# EAGLE library part STM32F411CEU6 (library STM32F411CEU6)
High-performance access line, ARM Cortex-M4 core with DSP and FPU, 512 Kbytes Flash, 100 MHz CPU, ART Accelerator
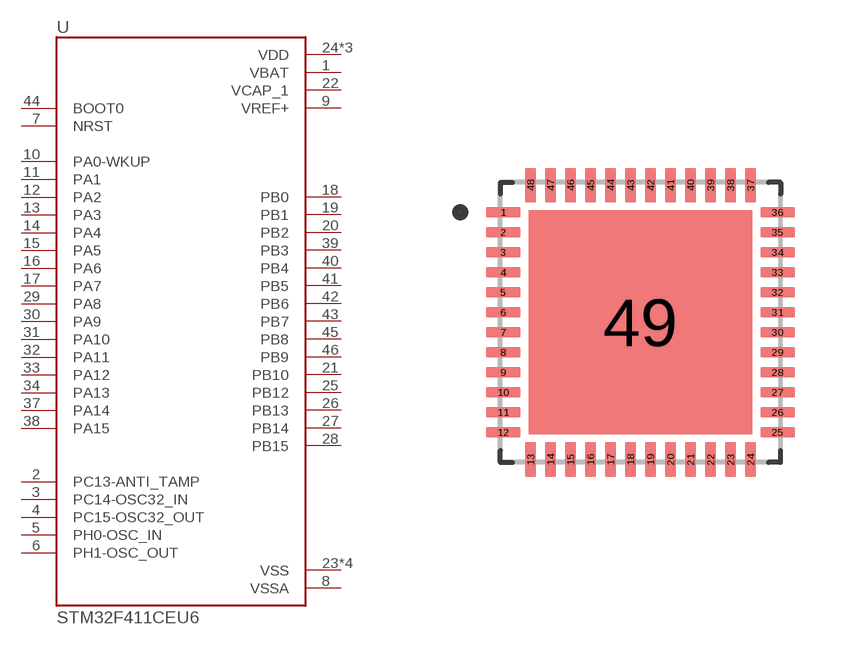
[diagram p0: symbol with the pads of QFN50P700X700X60-49N; footprint QFN50P700X700X60-49N]

Designator prefix U

## STM32F411CEU6 (MANUFACTURER: STMicroelectronics; MAXIMUM_PACKAGE_HEIGHT: 0.65mm; PARTREV: 7; STANDARD: IPC-7351B)  [QFN50P700X700X60-49N]
1  VBAT  pwr
2  PC13-ANTI_TAMP
3  PC14-OSC32_IN
4  PC15-OSC32_OUT
5  PH0-OSC_IN
6  PH1-OSC_OUT
7  NRST
8  VSSA  pwr
9  VREF+  pwr
10  PA0-WKUP
11  PA1
12  PA2
13  PA3
14  PA4
15  PA5
16  PA6
17  PA7
18  PB0
19  PB1
20  PB2
21  PB10
22  VCAP_1  pwr
23  VSS  pwr
24  VDD  pwr
25  PB12
26  PB13
27  PB14
28  PB15
29  PA8
30  PA9
31  PA10
32  PA11
33  PA12
34  PA13
35  VSS  pwr
36  VDD  pwr
37  PA14
38  PA15
39  PB3
40  PB4
41  PB5
42  PB6
43  PB7
44  BOOT0  in
45  PB8
46  PB9
47  VSS  pwr
48  VDD  pwr
49  VSS  pwr

## Footprint QFN50P700X700X60-49N (pad centres in mm)
smd 0.87 x 0.27: 1 -3.43,2.75; 2 -3.43,2.25; 3 -3.43,1.75; 4 -3.43,1.25; 5 -3.43,0.75; 6 -3.43,0.25; 7 -3.43,-0.25; 8 -3.43,-0.75; 9 -3.43,-1.25; 10 -3.43,-1.75; 11 -3.43,-2.25; 12 -3.43,-2.75; 25 3.43,-2.75; 26 3.43,-2.25; 27 3.43,-1.75; 28 3.43,-1.25; 29 3.43,-0.75; 30 3.43,-0.25; 31 3.43,0.25; 32 3.43,0.75; 33 3.43,1.25; 34 3.43,1.75; 35 3.43,2.25; 36 3.43,2.75
smd 0.27 x 0.87: 13 -2.75,-3.43; 14 -2.25,-3.43; 15 -1.75,-3.43; 16 -1.25,-3.43; 17 -0.75,-3.43; 18 -0.25,-3.43; 19 0.25,-3.43; 20 0.75,-3.43; 21 1.25,-3.43; 22 1.75,-3.43; 23 2.25,-3.43; 24 2.75,-3.43; 37 2.75,3.43; 38 2.25,3.43; 39 1.75,3.43; 40 1.25,3.43; 41 0.75,3.43; 42 0.25,3.43; 43 -0.25,3.43; 44 -0.75,3.43; 45 -1.25,3.43; 46 -1.75,3.43; 47 -2.25,3.43; 48 -2.75,3.43
smd 5.6 x 5.6: 49 0,0